# Altium integrated library GENERIC_LIB.IntLib: 4 symbols
Pins are listed as number, name and electrical type; pins without a type are passive.

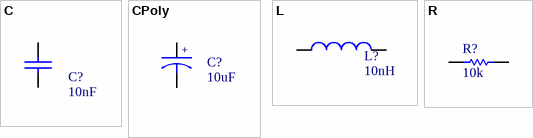
[diagram p0: symbols C to R]

## C
designator C?, comment 10nF
Capacitor; Power_WV_SRF: 25V; MFGPN: *; MFG: *; Value: 10nF; Tolerance: *; TempCo: *; Distributor: *; CMPN: *
footprint 0402C
footprint 0603C
footprint 0805C
footprint 1206C
footprint 1210C
footprint 0201C (0201)
footprint 2220C (5750)
footprint CAPC4532X220N (1812 (4532 Metric))
footprint CAPC0510X55N (Low ESL (Reverse Geometry) 0204 (0510 Metric))
pins: 1, 2

## CPoly
designator C?, comment 10uF
Cap Poly; Power_WV_SRF: 35V; MFG: *; MFGPN: *; Value: 10uF; Tolerance: *; Temp Coef: *; Distributor Reg Num: *; Distributor: *; CMPN: *
footprint TANTSMT_A
footprint 0603C
footprint 0805C
footprint 1206C
footprint 1210C
footprint TANTSMT_B
footprint TANTSMT_C
footprint TANTSMT_D
pins: 1, 2
text: +

## L
designator L?, comment 10nH
Inductor; MFG: *; MFGPN: *; Value: 10nH; Tolerance: *; Current: *; Power_WV_SRF: *; Distributor: *; CMPN: *
footprint 0402C
footprint 0805C
footprint 0603C
footprint 1206C
footprint 1210C
footprint 0201C (0201)
footprint IND2520X100N (0.098" L x 0.079" W (2.50mm x 2.00mm))
pins: 1, 2

## R
designator R?, comment 10k
Resistor; Tolerance: 5%; Value: 10k; Power_WV_SRF: *; MFG: *; MFGPN: *; Distributor: *; CMPN: *
footprint 0402C
footprint 0603C
footprint 0805C
footprint 1206C
footprint 1210C
footprint 0201C (0201)
footprint RESC6432X70N (2512 (6432 Metric))
pins: 1, 2